# Altium footprint library HGH.PcbLib: 336 footprints (part 18 of 21)
Each footprint in its own frame and in the unit in brackets; x right, y up, seen from the top. Pads: shape width x height; smd on the part's side, far side on the other; paste and mask are expansions set on the pad; w line width, h text height; cw(c..) or ccw(c..) is an arc to the next point about the centre after c.
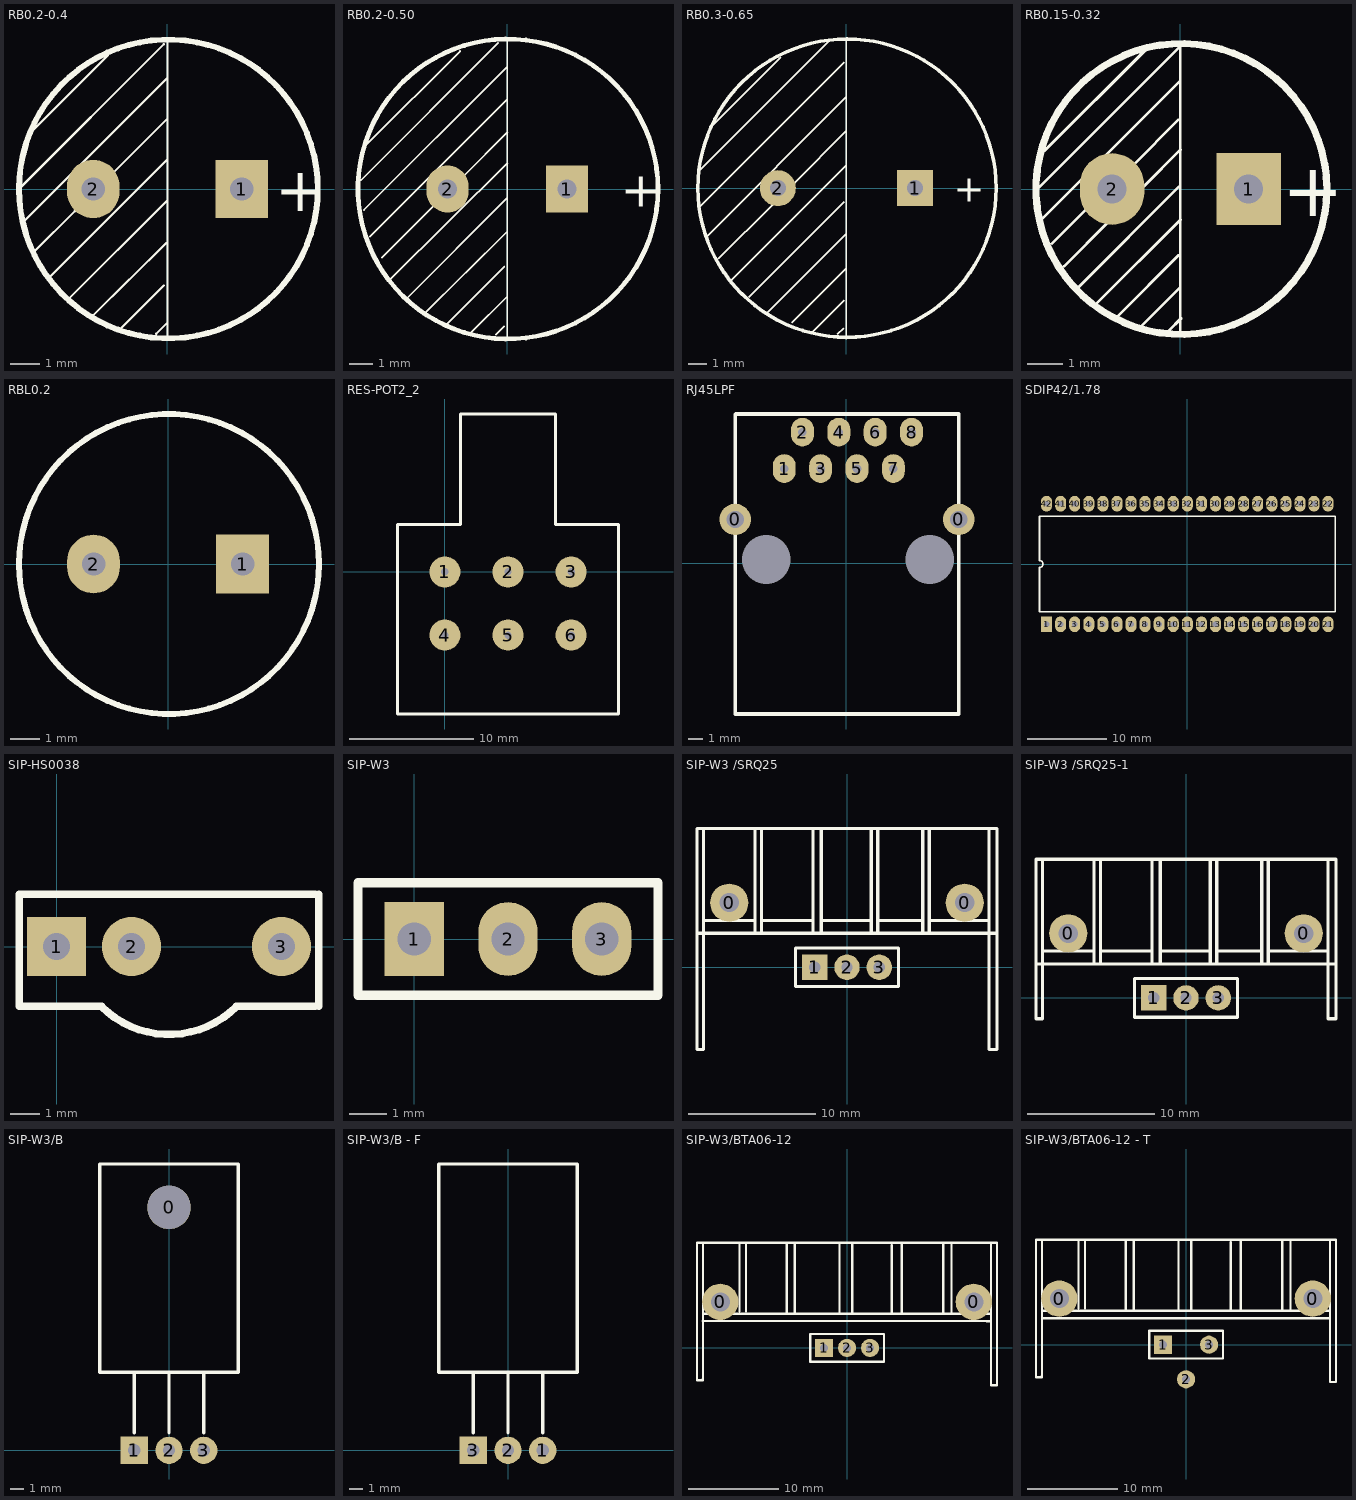
[diagram p17: the footprints below, top view; thin cyan lines are the x and y axes]

## RB0.2-0.4 [mm]
pads (2):
  rect 1.8x2 hole 0.8: 1(2.54,0)
  oval 1.8x2 hole 0.8: 2(-2.54,0)
Top Overlay:
  circle w0.2: c0.031,0 r5.111
  lines w0.076: -5.08,0 -0.127,4.953 ; -4.953,-1.143 0,3.81 ; -4.572,-2.159 -3.175,-0.762 ; -4.572,2.032 -2.032,4.572 ; -4.064,-3.048 0,1.016 ; -3.429,-3.81 -0.021,-0.402 ; -2.54,-4.318 -0.046,-1.849 ; -1.905,0.508 0.005,2.418 ; -1.651,-4.826 -0.127,-3.302 ; -0.381,-4.953 -0.025,-4.597 ; 0,-5.08 0,5.08
  text "+" at 3.683,-0.762 h1.5

## RB0.2-0.50 [mm]
pads (2):
  rect 1.8x2 hole 0.8: 1(2.54,0)
  oval 1.8x2 hole 0.8: 2(-2.54,0)
Top Overlay:
  circle w0.2: c0.031,0 r6.381
  lines w0.076: -6.223,0.381 -0.381,6.223 ; -6.096,-0.889 0,5.207 ; -5.969,1.905 -2.007,5.867 ; -5.842,-2.032 0,3.81 ; -5.334,-2.921 -3.175,-0.762 ; -4.953,-3.81 0.005,1.097 ; -4.318,-4.699 -0.021,-0.402 ; -3.556,-5.334 -0.046,-1.849 ; -2.667,-5.842 -0.127,-3.302 ; -1.905,0.508 0.005,2.418 ; -1.524,-6.096 0,-4.572 ; -0.483,-6.198 -0.127,-5.842 ; 0,-6.35 0,6.35
  text "+" at 4.826,-0.762 h1.5

## RB0.3-0.65 [mm]
pads (2):
  rect 2x2 hole 0.9: 1(3.81,0)
  round 2 hole 0.9: 2(-3.81,0)
Top Overlay:
  circle w0.2: c0.031,0 r8.286
  lines w0.076: -8.255,0.889 -1.016,8.128 ; -8.128,-1.016 -0.127,6.985 ; -7.747,-2.667 0,5.08 ; -7.62,3.302 -3.658,7.264 ; -7.112,-3.937 -4.064,-0.889 ; -6.477,-5.207 0,1.27 ; -5.44,-6.075 -0.127,-0.762 ; -4.445,-6.985 0,-2.54 ; -3.048,-7.493 0,-4.445 ; -2.921,0.254 0,3.175 ; -1.905,-8.001 -0.127,-6.223 ; -0.508,-8.128 -0.152,-7.772 ; 0,-8.382 0,8.255
  text "+" at 5.969,-0.762 h1.5

## RB0.15-0.32 [mm]
pads (2):
  rect 1.8x2 hole 0.8: 1(1.905,0)
  oval 1.8x2 hole 0.8: 2(-1.905,0)
Top Overlay:
  circle w0.2: c0.031,0 r4.058
  lines w0.076: -3.962,0.025 0,3.988 0,-3.988 ; -3.886,-0.864 -0.025,2.997 ; -3.785,1.067 -0.965,3.886 ; -3.581,-1.524 -2.565,-0.508 ; -3.251,-2.159 -2.007,-0.914 ; -2.819,-2.718 -0.046,0.056 ; -2.337,-3.2 0.005,-0.859 ; -1.727,-3.531 -0.046,-1.849 ; -1.321,0.66 -0.046,1.935 ; -1.067,-3.81 -0.021,-2.764 ; -1.016,0.076 0.005,1.097 ; -0.33,-3.962 0.025,-3.607
  text "+" at 2.845,-0.762 h1.5

## RBL0.2 [mm]
pads (2):
  rect 1.8x2 hole 0.8: 1(2.54,0)
  oval 1.8x2 hole 0.8: 2(-2.54,0)
Top Overlay:
  circle w0.2: c0.031,0 r5.111

## RES-POT2_2 [mm]
pads (6):
  round 2.5 hole 0.6: 1(0,0) 2(5.08,0) 3(10.16,0) 4(0,-5.08) 5(5.08,-5.08) 6(10.16,-5.08)
Top Overlay:
  lines w0.254: -3.81,-11.43 13.97,-11.43 13.97,3.81 8.89,3.81 8.89,12.7 1.27,12.7 1.27,3.81 -3.81,3.81 -3.81,-11.43

## RJ45LPF [mm]
pads (12):
  round 2.2 hole 1.2: 0(-7.747,3.048) 0(7.874,3.048)
  oval 1.6x2 hole 0.6: 1(-4.318,6.604) 2(-3.048,9.144) 3(-1.778,6.604) 4(-0.508,9.144) 5(0.762,6.604) 6(2.032,9.144) 7(3.302,6.604) 8(4.572,9.144)
  round 3 hole 3.4: ""(-5.588,0.254) ""(5.842,0.254)
Top Overlay:
  lines w0.254: -7.747,10.384 -7.747,-10.541 7.747,-10.541 ; -7.698,10.414 7.874,10.414 7.874,-10.541

## SDIP42/1.78 [mm]
pads (42):
  rect 1.4x2 hole 0.7: 1(-17.8,-7.62)
  oval 1.4x2 hole 0.7: 2(-16.02,-7.62) 3(-14.24,-7.62) 4(-12.46,-7.62) 5(-10.68,-7.62) 6(-8.9,-7.62) 7(-7.12,-7.62) 8(-5.34,-7.62) 9(-3.56,-7.62) 10(-1.78,-7.62) 11(0,-7.62) 12(1.78,-7.62) 13(3.56,-7.62) 14(5.34,-7.62) 15(7.12,-7.62) 16(8.9,-7.62) 17(10.68,-7.62) 18(12.46,-7.62) 19(14.24,-7.62) 20(16.02,-7.62) 21(17.8,-7.62) 22(17.8,7.62) 23(16.02,7.62) 24(14.24,7.62) 25(12.46,7.62) 26(10.68,7.62) 27(8.9,7.62) 28(7.12,7.62) 29(5.34,7.62) 30(3.56,7.62) 31(1.78,7.62) 32(0,7.62) 33(-1.78,7.62) 34(-3.56,7.62) 35(-5.34,7.62) 36(-7.12,7.62) 37(-8.9,7.62) 38(-10.68,7.62) 39(-12.46,7.62) 40(-14.24,7.62) 41(-16.02,7.62) 42(-17.8,7.62)
Top Overlay:
  lines w0.2: -18.69,-6.035 18.69,-6.035 18.69,6.035 -18.69,6.035 -18.69,0.445 cw(c-18.69,0) -18.69,-0.445 -18.69,-6.035

## SIP-HS0038 [mm]
pads (3):
  rect 2x2 hole 0.9: 1(0,0)
  round 2 hole 0.9: 2(2.54,0) 3(7.62,0)
Top Overlay:
  lines w0.254: 8.763,-2.032 6.096,-2.032 cw(c3.81,0.254) 1.524,-2.032 -1.27,-2.032 -1.27,1.778 8.763,1.778 ; 8.89,-2.032 8.89,1.778

## SIP-W3 [mm]
pads (3):
  rect 1.6x2 hole 0.9: 1(0,0)
  oval 1.6x2 hole 0.9: 2(2.54,0) 3(5.08,0)
Top Overlay:
  lines w0.254: -1.524,-1.524 -1.524,1.524 6.604,1.524 6.604,-1.524 -1.524,-1.524

## SIP-W3 /SRQ25 [mm]
pads (5):
  round 3 hole 1.5: 0(-9.271,5.08) 0(9.271,5.08)
  rect 2x2 hole 0.9: 1(-2.54,0)
  round 2 hole 0.9: 2(0,0) 3(2.54,0)
Top Overlay:
  lines w0.254: -11.811,2.667 11.811,2.667 ; -11.303,2.54 -11.303,-6.477 -11.811,-6.477 -11.811,10.922 11.811,10.922 11.811,-6.477 11.176,-6.477 11.176,2.667 11.176,10.922 ; -11.303,2.667 -11.303,10.922 ; -11.303,3.683 -7.239,3.683 ; -7.239,2.667 -7.239,10.922 ; -6.731,2.667 -6.731,10.922 ; -6.731,3.683 -2.667,3.683 ; -2.667,2.667 -2.667,10.922 ; -2.032,2.667 -2.032,10.922 ; -2.032,3.683 1.905,3.683 ; 1.905,2.667 1.905,10.922 ; 2.413,2.667 2.413,10.922 ; 2.413,3.683 5.969,3.683 ; 5.969,2.667 5.969,10.922 ; 6.477,2.667 6.477,10.922 ; 6.477,3.683 11.176,3.683 ; -4.064,-1.524 4.064,-1.524 4.064,1.524 -4.064,1.524 -4.064,-1.524

## SIP-W3 /SRQ25-1 [mm]
pads (5):
  round 3 hole 1.5: 0(-9.271,5.08) 0(9.271,5.08)
  rect 2x2 hole 0.9: 1(-2.54,0)
  round 2 hole 0.9: 2(0,0) 3(2.54,0)
Top Overlay:
  lines w0.254: -11.811,2.667 11.811,2.667 ; -11.303,2.54 -11.303,-1.651 -11.811,-1.651 -11.811,10.922 11.811,10.922 11.811,-1.651 11.176,-1.651 11.176,2.667 11.176,10.922 ; -11.303,2.667 -11.303,10.922 ; -11.303,3.683 -7.239,3.683 ; -7.239,2.667 -7.239,10.922 ; -6.731,2.667 -6.731,10.922 ; -6.731,3.683 -2.667,3.683 ; -2.667,2.667 -2.667,10.922 ; -2.032,2.667 -2.032,10.922 ; -2.032,3.683 1.905,3.683 ; 1.905,2.667 1.905,10.922 ; 2.413,2.667 2.413,10.922 ; 2.413,3.683 5.969,3.683 ; 5.969,2.667 5.969,10.922 ; 6.477,2.667 6.477,10.922 ; 6.477,3.683 11.176,3.683 ; -4.064,-1.524 -4.064,1.524 4.064,1.524 4.064,-1.524 -4.064,-1.524

## SIP-W3/B [mm]
pads (4):
  round 3.175 hole 3.175: 0(0,17.78)
  rect 2x2 hole 0.9: 1(-2.54,0)
  round 2 hole 0.9: 2(0,0) 3(2.54,0)
Top Overlay:
  lines w0.254: -2.54,1.27 -2.54,5.715 ; 0,1.27 0,5.715 ; 2.54,1.27 2.54,5.715 ; -5.08,5.715 5.08,5.715 5.08,20.955 -5.08,20.955 -5.08,5.715

## SIP-W3/B - F [mm]
pads (3):
  round 2 hole 0.9: 1(2.54,0) 2(0,0)
  rect 2x2 hole 0.9: 3(-2.54,0)
Top Overlay:
  lines w0.254: -2.54,1.27 -2.54,5.715 ; 0,1.27 0,5.715 ; 2.54,1.27 2.54,5.715 ; -5.08,5.715 5.08,5.715 5.08,20.955 -5.08,20.955 -5.08,5.715

## SIP-W3/BTA06-12 [mm]
pads (5):
  round 4 hole 2.1: 0(-13.97,5.08) 0(13.97,5.08)
  rect 2x2 hole 0.9: 1(-2.54,0)
  round 2 hole 0.9: 2(0,0) 3(2.54,0)
Top Overlay:
  lines w0.254: -15.95,-3.51 -15.88,-3.58 ; -15.89,2.96 15.4,2.95 15.73,2.95 ; -15.88,3.75 15.81,3.75 ; -15.88,11.58 -15.88,-3.58 ; -11.85,4.01 -11.85,11.58 ; -11.13,4.02 -11.13,11.58 ; -6.64,3.94 -6.64,11.34 -6.64,11.58 ; -5.78,3.88 -5.78,11.58 ; -0.83,3.75 -0.83,11.58 ; 0.56,3.75 0.56,11.52 ; 4.92,3.75 4.92,11.31 ; 6.04,3.75 6.04,11.38 ; 10.59,3.75 10.59,11.45 ; 11.52,3.75 11.52,11.51 ; 15.87,11.52 15.87,-4.11 16.53,-4.11 16.53,5.5 16.53,11.58 -16.54,11.58 -16.54,5.5 -16.54,-3.58 -15.88,-3.58 ; -4.064,-1.524 -4.064,1.524 4.064,1.524 4.064,-1.524 -4.064,-1.524

## SIP-W3/BTA06-12 - T [mm]
pads (5):
  round 4 hole 2.1: 0(-13.97,5.08) 0(13.97,5.08)
  rect 2x2 hole 0.9: 1(-2.54,0)
  round 2 hole 0.9: 2(0,-3.81) 3(2.54,0)
Top Overlay:
  lines w0.254: -15.95,-3.51 -15.88,-3.58 ; -15.88,3.75 15.81,3.75 ; -15.88,11.58 -15.88,-3.58 ; -15.875,2.921 15.875,2.921 15.4,2.95 15.73,2.95 ; -11.85,4.01 -11.85,11.58 ; -11.13,4.02 -11.13,11.58 ; -6.64,3.94 -6.64,11.34 -6.64,11.58 ; -5.78,3.88 -5.78,11.58 ; -0.83,3.75 -0.83,11.58 ; 0.56,3.75 0.56,11.52 ; 4.92,3.75 4.92,11.31 ; 6.04,3.75 6.04,11.38 ; 10.59,3.75 10.59,11.45 ; 11.52,3.75 11.52,11.51 ; 15.87,11.52 15.87,-4.11 16.53,-4.11 16.53,5.5 16.53,11.58 -16.54,11.58 -16.54,5.5 -16.54,-3.58 -15.88,-3.58 ; -4.064,-1.524 4.064,-1.524 4.064,1.524 -4.064,1.524 -4.064,-1.524